# Altium schematic symbol library C7461350.SchLib: 1 symbol
Pins are listed as number, name and electrical type; pins without a type are passive.

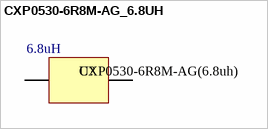
[diagram p0: symbol CXP0530-6R8M-AG_6.8UH]

## CXP0530-6R8M-AG_6.8UH
designator U?, comment CXP0530-6R8M-AG(6.8uh)  value 6.8uH
3.5A 6.8uH Â±20% 5A 70mÎ© Molded inductor SMD,5.7x5.2mm Fixed Inductors; Name: C7461350; Source: LCSC
footprint IND-SMD_L5.7-W5.2 (3.5A 6.8uH ±20% 5A 70m? Molded inductor SMD,5.7x5.2mm Fixed Inductors)
pins: 1, 2